# Altium footprint library LTM4613.PcbLib: 18 footprints (part 2 of 2)
Each footprint in its own frame and in the unit in brackets; x right, y up, seen from the top. Pads: shape width x height; smd on the part's side, far side on the other; paste and mask are expansions set on the pad; w line width, h text height; cw(c..) or ccw(c..) is an arc to the next point about the centre after c.
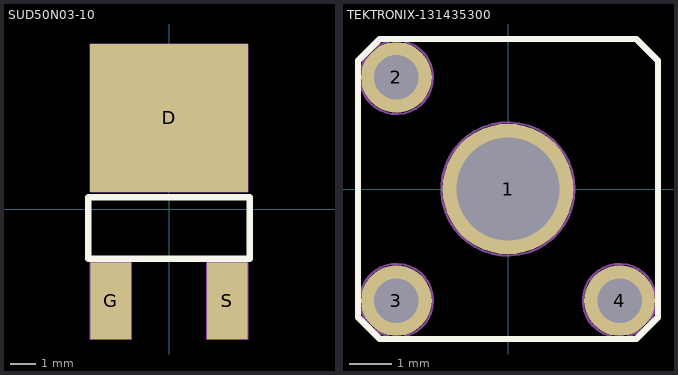
[diagram p1: the footprints below, top view; thin cyan lines are the x and y axes]

## SUD50N03-10 [mm]
pads (3):
  rect 6.2x5.8 smd: D(0,3.59)
  rect 1.6x3 smd: G(-2.286,-3.59) S(2.286,-3.59)
Top Overlay:
  lines w0.254: -3.175,-1.939 3.175,-1.939 3.175,0.474 -3.175,0.474 -3.175,-1.939
Mechanical 1:
  lines w0.05: -3.1,0.69 3.1,0.69 3.1,6.49 -3.1,6.49 -3.1,0.69 ; -3.086,-5.09 -3.086,-2.09 -1.486,-2.09 -1.486,-5.09 -3.086,-5.09 ; 1.486,-5.09 1.486,-2.09 3.086,-2.09 3.086,-5.09 1.486,-5.09
Mechanical 16:
  lines w0.05: -3.1,0.69 3.1,0.69 3.1,6.49 -3.1,6.49 -3.1,0.69 ; -3.086,-5.09 -3.086,-2.09 -1.486,-2.09 -1.486,-5.09 -3.086,-5.09 ; 1.486,-5.09 1.486,-2.09 3.086,-2.09 3.086,-5.09 1.486,-5.09

## TEKTRONIX-131435300 [mil]
pads (4):
  round 120 hole 95: 1(0,0)
  round 65 hole 41: 2(-102.5,102.5) 3(-102.5,-102.5) 4(102.5,-102.5)
Top Overlay:
  lines w5.91: -137.8,-117.8 -117.8,-137.8 117.8,-137.8 137.8,-117.8 137.8,117.8 117.8,137.8 -117.8,137.8 -137.8,117.8 -137.8,-117.8
Mechanical 1:
  circle w1.97: c0,0 r61.25
  circle w1.97: c-102.5,102.5 r33.75
  circle w1.97: c-102.5,-102.5 r33.75
  circle w1.97: c102.5,-102.5 r33.75
Mechanical 16:
  circle w1.97: c0,0 r61.25
  circle w1.97: c-102.5,102.5 r33.75
  circle w1.97: c-102.5,-102.5 r33.75
  circle w1.97: c102.5,-102.5 r33.75